# EAGLE library part NRF8001 (library IC_Wireless-RF)
Single-chip Bluetooth® low energy solution Datasheet <https://www.nordicsemi.com/-/media/DocLib/Other/Product_Spec/nRF8001PSv13.pdf>
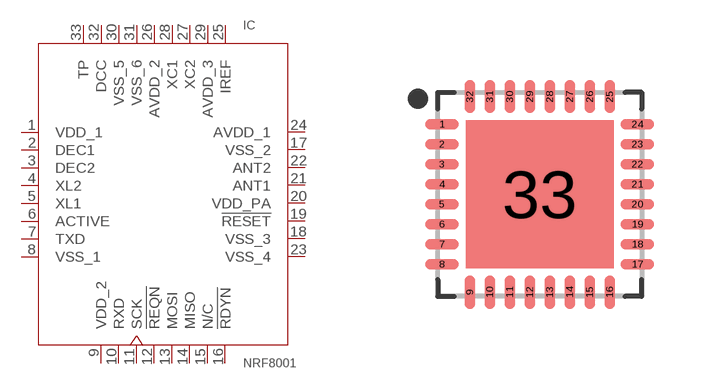
[diagram p21: symbol with the pads of QFN50P500X500X85-33T370N; footprint QFN50P500X500X85-33T370N]

Designator prefix IC

## NRF8001 (CATEGORY: IC_INTERFACE; MANUFACTURER: Nordic Semiconductor; MPN: NRF8001-R2Q32-T; OPERATING_TEMPERATURE: - 40 C to + 85 C; PART_STATUS: ACTIVE; ROHS_COMPLIANT: COMPLIANT; SERIES: NRF8001; SUB_CATEGORY: BLUETOOTH LW ENERGY SLAVE CONNCTIVTY-CHP; TYPE: RF System on a Chip - SoC; VALUE: NRF8001)  [QFN50P500X500X85-33T370N]
1  VDD_1  pwr
2  DEC1  pwr
3  DEC2  pwr
4  XL2  out
5  XL1  in
6  ACTIVE  out
7  TXD  out
8  VSS_1  pwr
9  VDD_2  pwr
10  RXD  in
11  SCK  in
12  !REQN  in
13  MOSI  in
14  MISO  out
15  N/C  nc
16  !RDYN  out
17  VSS_2  pwr
18  VSS_3  pwr
19  !RESET  in
20  VDD_PA  pwr
21  ANT1
22  ANT2
23  VSS_4  pwr
24  AVDD_1  pwr
25  IREF  out
26  AVDD_2  pwr
27  XC2  out
28  XC1  in
29  AVDD_3  pwr
30  VSS_5  pwr
31  VSS_6  pwr
32  DCC  pwr
33  TP

## Footprint QFN50P500X500X85-33T370N (pad centres in mm)
32-QFN, 0.50 mm pitch, 5.00 X 5.00 X 0.85 mm body, 3.70 X 3.70 mm thermal pad 32-pin QFN package with 0.50 mm pitch with body size 5.00 X 5.00 X 0.85 mm and thermal pad size 3.70 X 3.70 mm
smd 0.838 x 0.264: 1 -2.446,1.75; 2 -2.446,1.25; 3 -2.446,0.75; 4 -2.446,0.25; 5 -2.446,-0.25; 6 -2.446,-0.75; 7 -2.446,-1.25; 8 -2.446,-1.75; 17 2.446,-1.75; 18 2.446,-1.25; 19 2.446,-0.75; 20 2.446,-0.25; 21 2.446,0.25; 22 2.446,0.75; 23 2.446,1.25; 24 2.446,1.75
smd 0.264 x 0.838: 9 -1.75,-2.446; 10 -1.25,-2.446; 11 -0.75,-2.446; 12 -0.25,-2.446; 13 0.25,-2.446; 14 0.75,-2.446; 15 1.25,-2.446; 16 1.75,-2.446; 25 1.75,2.446; 26 1.25,2.446; 27 0.75,2.446; 28 0.25,2.446; 29 -0.25,2.446; 30 -0.75,2.446; 31 -1.25,2.446; 32 -1.75,2.446
smd 3.7 x 3.7: 33 0,0